# Altium footprint library LDO.PcbLib: 9 footprints
Each footprint in its own frame and in the unit in brackets; x right, y up, seen from the top. Pads: shape width x height; smd on the part's side, far side on the other; paste and mask are expansions set on the pad; w line width, h text height; cw(c..) or ccw(c..) is an arc to the next point about the centre after c.
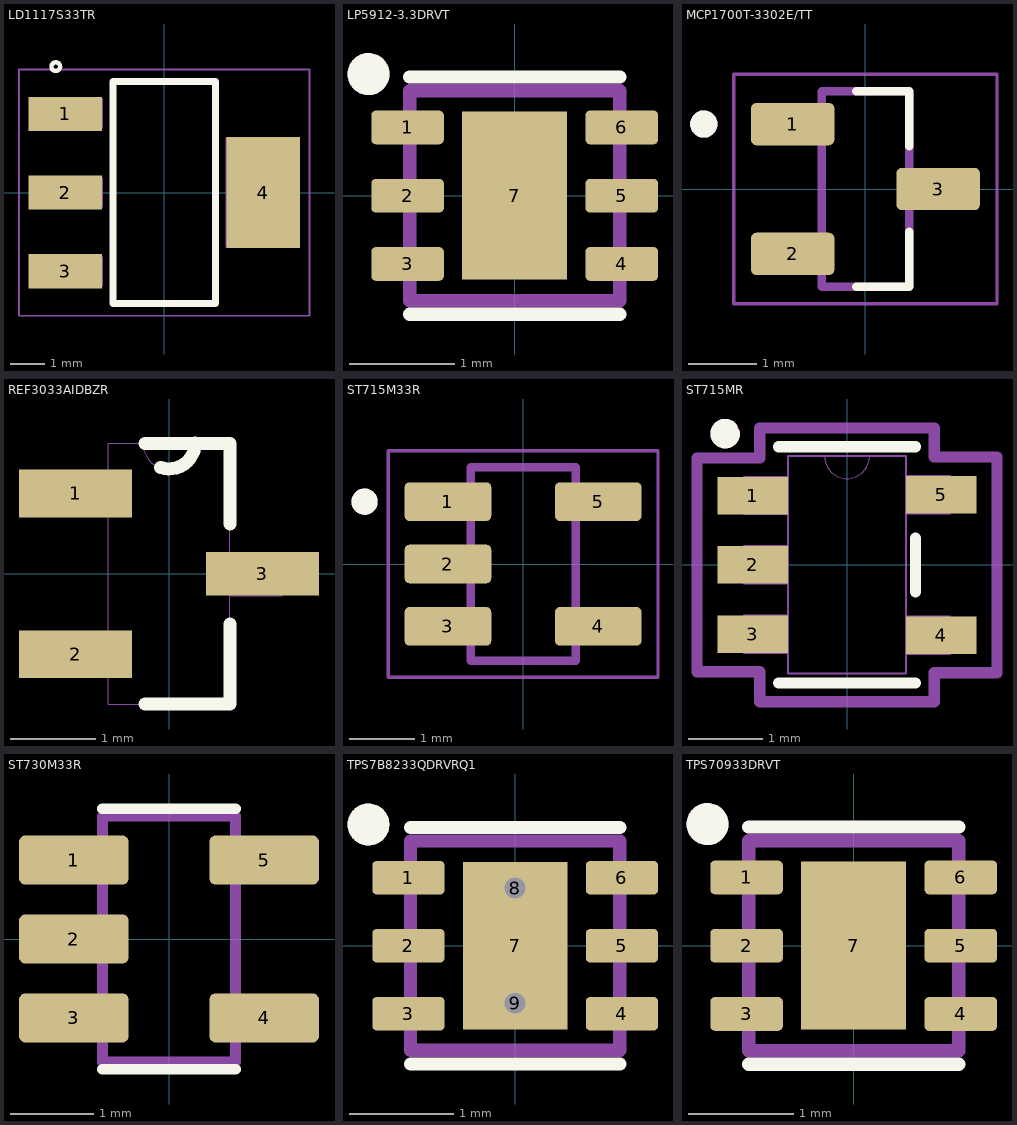
[diagram p0: the footprints below, top view; thin cyan lines are the x and y axes]

## LD1117S33TR [mm] "Linear Voltage Regulator IC Positive Fixed 1 Output 800mA SOT-223"
pads (4):
  rect 2.15x1 smd: 1(-2.9,2.3) 2(-2.9,0) 3(-2.9,-2.3)
  rect 2.15x3.25 smd: 4(2.9,0)
Top Overlay:
  circle w0.127: c-3.175,3.683 r0.127
  lines w0.203: -1.5,-3.25 -1.5,3.25 1.5,3.25 1.5,-3.25 -1.5,-3.25
Mechanical 13:
  region: -1.803,-2.744 -3.658,-2.744 -3.658,-1.88 -1.803,-1.88
  region: -1.805,1.879 -3.658,1.879 -3.658,2.745 -1.805,2.745
  region: -1.805,-0.435 -3.661,-0.435 -3.661,0.434 -1.805,0.434
  region: 3.659,-1.6 1.804,-1.6 1.804,1.599 3.659,1.599
  region: -1.803,-2.746 -3.66,-2.746 -3.66,-1.88 -1.803,-1.88
  region: -1.807,1.878 -3.659,1.878 -3.659,2.746 -1.807,2.746
  region: -1.804,-0.433 -3.659,-0.433 -3.659,0.433 -1.804,0.433
  region: 3.66,-1.6 1.804,-1.6 1.804,1.598 3.66,1.598
Mechanical 15:
  lines w0.05: -4.25,-3.6 -4.25,3.6 4.25,3.6 4.25,-3.6 -4.25,-3.6
3D body "step_temp.STEP": height 1.8, standoff 0, extent -3.499,-3.25 3.499,3.25

## LP5912-3.3DRVT [mm]
pads (7):
  rrect25% 0.69x0.32 smd: 1(-1.02,0.65) 2(-1.02,0) 3(-1.02,-0.65) 4(1.02,-0.65) 5(1.02,0) 6(1.02,0.65)
  rect 1x1.6 smd paste-2: 7(0,0)
Top Overlay:
  circle w0.2: c-1.392,1.158 r0.1
  lines w0.127: -1,-1.13 1,-1.13 ; -1,1.13 1,1.13
Top Paste:
  region: 0.316,-0.506 -0.316,-0.506 -0.316,0.506 0.316,0.506
Mechanical 13:
  circle w0.2: c-1.392,1.158 r0.1
  lines w0.127: -1,-1 1,-1 1,1 -1,1 -1,-1
3D body "step_temp.STEP": height 0.8, standoff 0, extent -1,-1 1,1

## MCP1700T-3302E/TT [mm] "Pwr Sply Func,Voltage Regulator,LDO,SOT-23,PD 369.6mW,VO 3.3V,Regline +/-0.75%/V"
pads (3):
  rrect25% 1.22x0.62 smd: 1(-1.065,0.95) 2(-1.065,-0.95) 3(1.065,0)
Top Overlay:
  circle w0.2: c-2.365,0.95 r0.1
  lines w0.127: -0.135,-1.43 0.64,-1.43 0.64,-0.63 ; -0.135,1.43 0.64,1.43 0.64,0.63
Mechanical 13:
  circle w0.2: c-2.365,0.95 r0.1
  lines w0.127: -0.64,-1.43 -0.64,1.43 0.64,1.43 0.64,-1.43 -0.64,-1.43
Mechanical 15:
  lines w0.05: -1.925,-1.68 1.925,-1.68 1.925,1.68 -1.925,1.68 -1.925,-1.68
3D body "step_temp.STEP": height 1.12, standoff 0, extent -1.185,-1.45 1.185,1.45

## REF3033AIDBZR [mil] "3.3-V voltage reference;   50-ppm/°C, 50-µA in 3-pin SOT-23 package series (bandgap)"
pads (3):
  rect 52x22 smd: 1(-43,37) 2(-43,-37)
  rect 52x20 smd: 3(43,0)
Top Overlay:
  lines w6: -11,-60 28,-60 28,-23 ; -11,60 12,60 28,60 28,23 ; -3.9,48.96 ccw(c0.15,60.1) 12,60.1
Mechanical 13:
  lines w0: -28,-47 -28,-60 28,-60 28,-10 ; -28,-47 -28,-28 ; -28,-47 -52,-47 -52,-28 -28,-28 ; -28,-28 -28,28 ; -28,28 -28,47 ; -28,28 -52,28 -52,47 -28,47 ; -28,47 -28,60 -12,60 ; -12,60 ccw(c0,60) 12,60 ; -12,60 12,60 ; 12,60 28,60 28,10 ; 28,-10 28,10 ; 28,-10 52,-10 52,10 28,10
3D body "step_temp.STEP": height 44.09, standoff 0, extent -46.65,-57.48 46.65,57.48

## ST715M33R [mm] "Linear Voltage Regulator IC Positive Fixed 1 Output 85mA SOT-23-5"
pads (5):
  rrect25% 1.32x0.59 smd: 1(-1.145,0.95) 2(-1.145,0) 3(-1.145,-0.95) 4(1.145,-0.95) 5(1.145,0.95)
Top Overlay:
  circle w0.2: c-2.415,0.95 r0.1
Mechanical 13:
  circle w0.2: c-2.415,0.95 r0.1
  lines w0.127: -0.8,-1.475 -0.8,1.475 0.8,1.475 0.8,-1.475 -0.8,-1.475
Mechanical 15:
  lines w0.05: -2.055,-1.725 2.055,-1.725 2.055,1.725 -2.055,1.725 -2.055,-1.725
3D body "step_temp.STEP": height 1.45, standoff 0, extent -1.4,-1.45 1.4,1.45

## ST715MR [mil] "Linear Voltage Regulator IC Positive Adjustable 1 Output 85mA SOT-23-5"
pads (5):
  rect 37.5x20 smd paste+0 mask+0: 1(-50.25,37) 2(-50.25,0) 3(-50.25,-37) 4(50.25,-37.5) 5(50.25,37.5)
Top Overlay:
  lines w6: -36.5,-63 36.5,-63 ; -36.5,63 36.5,63 ; 36.5,-14.4 36.5,14.4
  lines w7.87: -62.44,72.99 ccw(c-65,70) -61.06,70
Mechanical 13:
  circle w7.87: c-65,70 r3.94
  lines w0: -12,58 ccw(c0,58) 12,58
  lines w1: -55,-47 -55,-27 -31.5,-27 -31.5,-47 -55,-47 ; -55,-10 -55,10 -31.5,10 -31.5,-10 -55,-10 ; -55,27 -55,47 -31.5,47 -31.5,27 -55,27 ; -31.5,-58 31.5,-58 31.5,58 -31.5,58 -31.5,-58 ; 31.5,-47.5 31.5,-27.5 55,-27.5 55,-47.5 31.5,-47.5 ; 31.5,27.5 31.5,47.5 55,47.5 55,27.5 31.5,27.5
Mechanical 15:
  lines w6: -80,-57 -46.5,-57 -46.5,-73 46.5,-73 46.5,-57.5 80,-57.5 80,57.5 46.5,57.5 46.5,73 -46.5,73 -46.5,57 -80,57 -80,-57
3D body "SOT_715MR_STM.step": height 57.09, standoff 0, extent -55,-57.99 55,57.99

## ST730M33R [mm]
pads (5):
  rrect25% 1.32x0.59 smd mask+0.05: 1(-1.145,0.95) 2(-1.145,0) 3(-1.145,-0.95) 4(1.145,-0.95) 5(1.145,0.95)
Top Overlay:
  lines w0.127: -0.8,-1.565 0.8,-1.565 ; -0.8,1.565 0.8,1.565
Mechanical 13:
  lines w0.127: -0.8,-1.475 0.8,-1.475 0.8,1.475 -0.8,1.475 -0.8,-1.475
3D body "step_temp.STEP": height 1.45, standoff 0, extent -1.4,-1.475 1.4,1.475

## TPS7B8233QDRVRQ1 [mm] "Automotive 300-mA, off-battery (40-V), ultra-low-IQ LDO with enable in AEC-Q100 Grade-0 and Grade-1"
pads (9):
  rrect25% 0.69x0.32 smd: 1(-1.02,0.65) 2(-1.02,0) 3(-1.02,-0.65) 4(1.02,-0.65) 5(1.02,0) 6(1.02,0.65)
  rect 1x1.6 smd paste-2: 7(0,0)
  round 0.4 hole 0.2 mask+0: 8(0,0.55) 9(0,-0.55)
Top Overlay:
  circle w0.2: c-1.402,1.158 r0.1
  lines w0.127: -1,-1.13 1,-1.13 ; -1,1.13 1,1.13
Top Paste:
  region: 0.5,0.1 -0.5,0.1 -0.5,0.8 0.5,0.8
  region: 0.5,-0.8 -0.5,-0.8 -0.5,-0.1 0.5,-0.1
Mechanical 13:
  circle w0.2: c-1.402,1.158 r0.1
  lines w0.127: -1,-1 -1,1 1,1 1,-1 -1,-1
3D body "step_temp.STEP": height 0.8, standoff 0, extent -1,-1 1,1

## TPS70933DRVT [mm]
pads (7):
  rrect25% 0.69x0.32 smd: 1(-1.02,0.65) 2(-1.02,0) 3(-1.02,-0.65) 4(1.02,-0.65) 5(1.02,0) 6(1.02,0.65)
  rect 1x1.6 smd paste-2: 7(0,0)
Top Overlay:
  circle w0.2: c-1.392,1.158 r0.1
  lines w0.127: -1,-1.13 1,-1.13 ; -1,1.13 1,1.13
Top Paste:
  region: 0.316,-0.506 -0.316,-0.506 -0.316,0.506 0.316,0.506
Mechanical 13:
  circle w0.2: c-1.392,1.158 r0.1
  lines w0.127: -1,-1 1,-1 1,1 -1,1 -1,-1
3D body "step_temp.STEP": height 0.8, standoff 0, extent -1,-1 1,1